# Altium schematic symbol library Schlib1.SchLib: 1 symbol
Pins are listed as number, name and electrical type; pins without a type are passive.

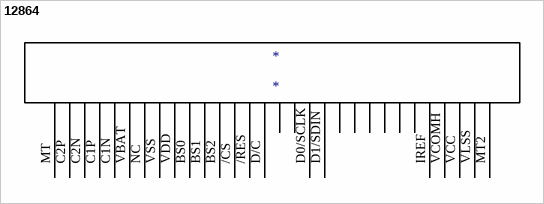
[diagram p0: symbol 12864]

## 12864
designator *
pins: /CS 13, /RES 14, BS0 10, BS1 11, BS2 12, C1N 5, C1P 4, C2N 3, C2P, D0/SCLK 18, D1/SDIN 19, D/C 15, IREF 26, MT, MT2 30, NC 7, VBAT 6, VCC 28, VCOMH 27, VDD 9, VLSS 29, VSS 8